# Altium footprint library QFN50P400X400X80-20N.PcbLib: 1 footprints
Each footprint in its own frame and in the unit in brackets; x right, y up, seen from the top. Pads: shape width x height; smd on the part's side, far side on the other; paste and mask are expansions set on the pad; w line width, h text height; cw(c..) or ccw(c..) is an arc to the next point about the centre after c.
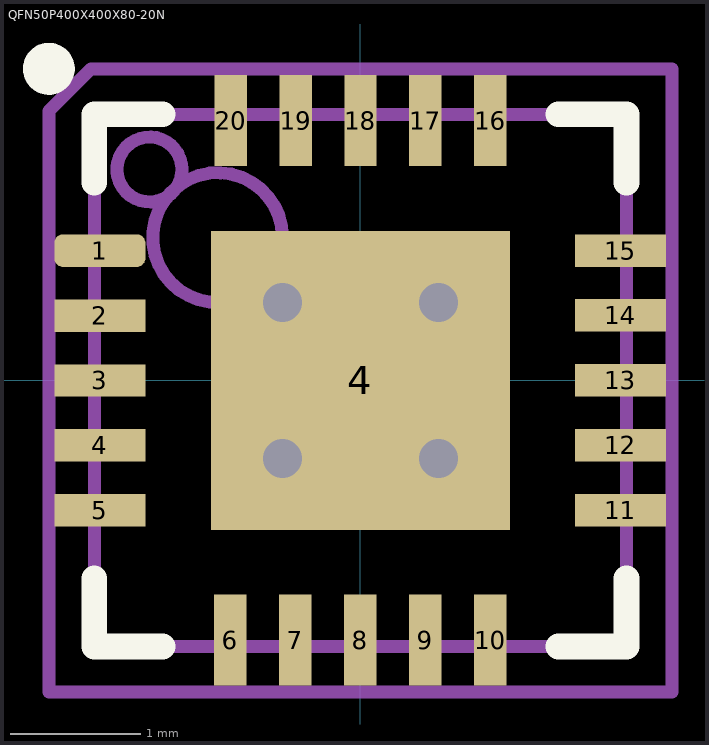
[diagram p0: the footprint, top view; thin cyan lines are the x and y axes]

## QFN50P400X400X80-20N [mm] "QFN, 20-Leads, Body 4,1x4,1mm (max), Pitch 0,50mm, IPC Medium Density"
height 0.8
pads (21):
  rrect50% 0.7x0.25 smd mask+0.07: 1(-2.007,1)
  rect 0.7x0.25 smd mask+0.07: 2(-2.007,0.5) 3(-2.007,0) 4(-2.007,-0.5) 5(-2.007,-1) 11(2.002,-0.999) 12(2.002,-0.499) 13(2.002,0.001) 14(2.002,0.501) 15(2.002,1.001)
  rect 2.3x2.3 smd: 4(0,0)
  rect 0.25x0.7 smd mask+0.07: 6(-1.002,-1.999) 7(-0.502,-1.999) 8(-0.002,-1.999) 9(0.498,-1.999) 10(0.998,-1.999) 16(1,2.002) 17(0.5,2.002) 18(0,2.002) 19(-0.5,2.002) 20(-1,2.002)
via -0.6,0.6 diameter 0.6 hole 0.3
via 0.6,0.6 diameter 0.6 hole 0.3
via -0.6,-0.6 diameter 0.6 hole 0.3
via 0.6,-0.6 diameter 0.6 hole 0.3
Top Overlay:
  circle w0.2: c-2.4,2.4 r0.1
  lines w0.2: -2.05,-1.525 -2.05,-2.05 -1.525,-2.05 ; -2.05,1.525 -2.05,2.05 -1.525,2.05 ; 1.525,-2.05 2.05,-2.05 2.05,-1.525 ; 1.525,2.05 2.05,2.05 2.05,1.525
Mechanical 13:
  circle w0.1: c-1.1,1.1 r0.5
  lines w0.1: -2.05,-2.05 -2.05,2.05 2.05,2.05 2.05,-2.05 -2.05,-2.05
Mechanical 15:
  circle w0.1: c-1.625,1.625 r0.25
  lines w0.1: -0.5,0 0.5,0 ; 0,-0.5 0,0.5 ; -2.4,-2.4 -2.4,2.075 -2.075,2.4 2.4,2.4 2.4,-2.4 -2.4,-2.4
3D body: height 1, standoff 0, extent -2.05,-2.05 2.05,2.05